# Altium footprint library PowerSupply.PcbLib: 19 footprints (part 2 of 2)
Each footprint in its own frame and in the unit in brackets; x right, y up, seen from the top. Pads: shape width x height; smd on the part's side, far side on the other; paste and mask are expansions set on the pad; w line width, h text height; cw(c..) or ccw(c..) is an arc to the next point about the centre after c.
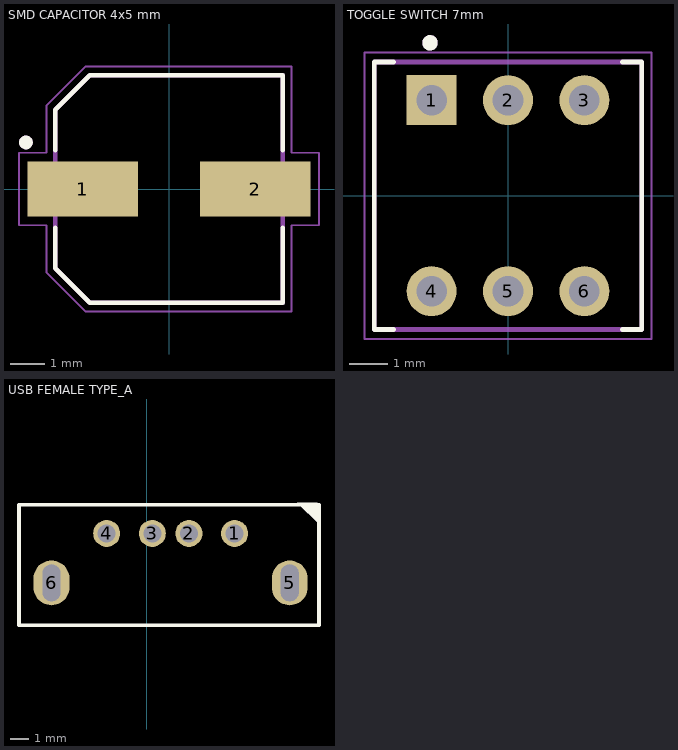
[diagram p1: the footprints below, top view; thin cyan lines are the x and y axes]

## SMD CAPACITOR 4x5 mm [mm]
pads (2):
  rect 3.2x1.6 smd: 1(-2.5,0) 2(2.5,0)
Top Overlay:
  circle w0.2: c-4.15,1.35 r0.1
  lines w0.127: -3.3,-1.12 -3.3,-2.3 -2.3,-3.3 3.3,-3.3 3.3,-1.12 ; -3.3,1.12 -3.3,2.3 -2.3,3.3 3.3,3.3 3.3,1.12
Mechanical 13:
  circle w0.2: c-4.15,1.35 r0.1
  lines w0.127: -3.3,-2.3 -2.3,-3.3 3.3,-3.3 3.3,3.3 -2.3,3.3 -3.3,2.3 -3.3,-2.3
Mechanical 15:
  lines w0.05: -4.35,-1.05 -4.35,1.05 -3.55,1.05 -3.55,2.425 -2.425,3.55 3.55,3.55 3.55,1.05 4.35,1.05 4.35,-1.05 3.55,-1.05 3.55,-3.55 -2.425,-3.55 -3.55,-2.425 -3.55,-1.05 -4.35,-1.05
3D body "step_temp.STEP": height 0, standoff 0, extent 0,0 0,0

## TOGGLE SWITCH 7mm [mm]
pads (6):
  rect 1.308x1.308 hole 0.8: 1(-2,2.5)
  round 1.308 hole 0.8: 2(0,2.5) 3(2,2.5) 4(-2,-2.5) 5(0,-2.5) 6(2,-2.5)
Top Overlay:
  circle w0.2: c-2.04,4 r0.1
  lines w0.127: -3,-3.5 -3.5,-3.5 -3.5,3.5 -3,3.5 ; 3,-3.5 3.5,-3.5 3.5,3.5 3,3.5
Mechanical 13:
  circle w0.2: c-2.04,4 r0.1
  lines w0.127: -3.5,-3.5 3.5,-3.5 3.5,3.5 -3.5,3.5 -3.5,-3.5
Mechanical 15:
  lines w0.05: -3.75,-3.75 3.75,-3.75 3.75,3.75 -3.75,3.75 -3.75,-3.75
3D body "Toggle Button (7 x 7 x 12mm) - NON Latching.stp": height 13.54, standoff -3.23, extent -3.518,-3.454 3.518,3.454

## USB FEMALE TYPE_A [mm]
pads (6):
  round 1.5 hole 1 mask+0.05: 1(4.9,13.5) 2(2.36,13.5) 3(0.32,13.5) 4(-2.22,13.5)
  oval 2x2.5 hole 1 slot 2.05 at 90 deg paste+0: 5(7.97,10.75) 6(-5.29,10.75)
Top Overlay:
  region: 9.6,14 8.4,15.2 9.5,15.2 9.6,15.1 9.6,14.1
  lines w0.2: -7.1,8.4 -7.1,15.1 9.6,15.1 9.6,9 9.6,8.4 -7.1,8.4
3D body "USB Connector Type A female.STEP": height 8.45, standoff -2.94, extent -6.55,0.5 9.15,14.65